# EAGLE library part 623X1621021 (library Eagle_BOARD-TO-BOARD_CONNECTORS (rev18b))
WR-PHD 1.27mm Dual SMT Socket Header H=4.50mm, 16 Pins=>Code : Con_BTB_SHD_1.27_2_623x1621021(Packaging:x = 0: Tube x = 3: Tape & Reel with Cap) <http://katalog.we-online.de/media/thumbs2/eican/thb_Con_BTB_SHD_1.27_2_6230xx21021_pf2.jpg> 6230xx21021 Details see: http://katalog.we-online.de/en/em/PHD_1_27_SMT_DUAL_SOCKET_HEADER_6230XX21021 6233xx21021 Details see: http://katalog.we-online.de/en/em/PHD_1_27_SMT_DUAL_SOCKET_HEADER_REEL_6233XX21021 2014 (C) Würth Elektronik
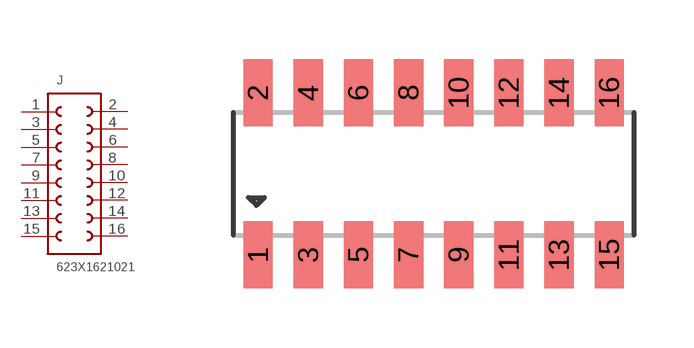
[diagram p297: symbol with the pads of 623X1621021; footprint 623X1621021]

Designator prefix J

## 623X1621021  [623X1621021]
1  1  pas
2  16  pas
3  2  pas
4  15  pas
5  3  pas
6  14  pas
7  4  pas
8  13  pas
9  5  pas
10  12  pas
11  6  pas
12  11  pas
13  7  pas
14  10  pas
15  8  pas
16  9  pas

## Footprint 623X1621021 (pad centres in mm)
WR-PHD 1.27mm Dual SMT Socket Header H=4.50mm, 16 Pins
smd 0.74 x 1.7: 1 -4.445,-2.05; 2 -4.445,2.05; 3 -3.175,-2.05; 4 -3.175,2.05; 5 -1.905,-2.05; 6 -1.905,2.05; 7 -0.635,-2.05; 8 -0.635,2.05; 9 0.635,-2.05; 10 0.635,2.05; 11 1.905,-2.05; 12 1.905,2.05; 13 3.175,-2.05; 14 3.175,2.05; 15 4.445,-2.05; 16 4.445,2.05